# Altium schematic symbol library Elenze.SchLib: 40 symbols
Pins are listed as number, name and electrical type; pins without a type are passive.

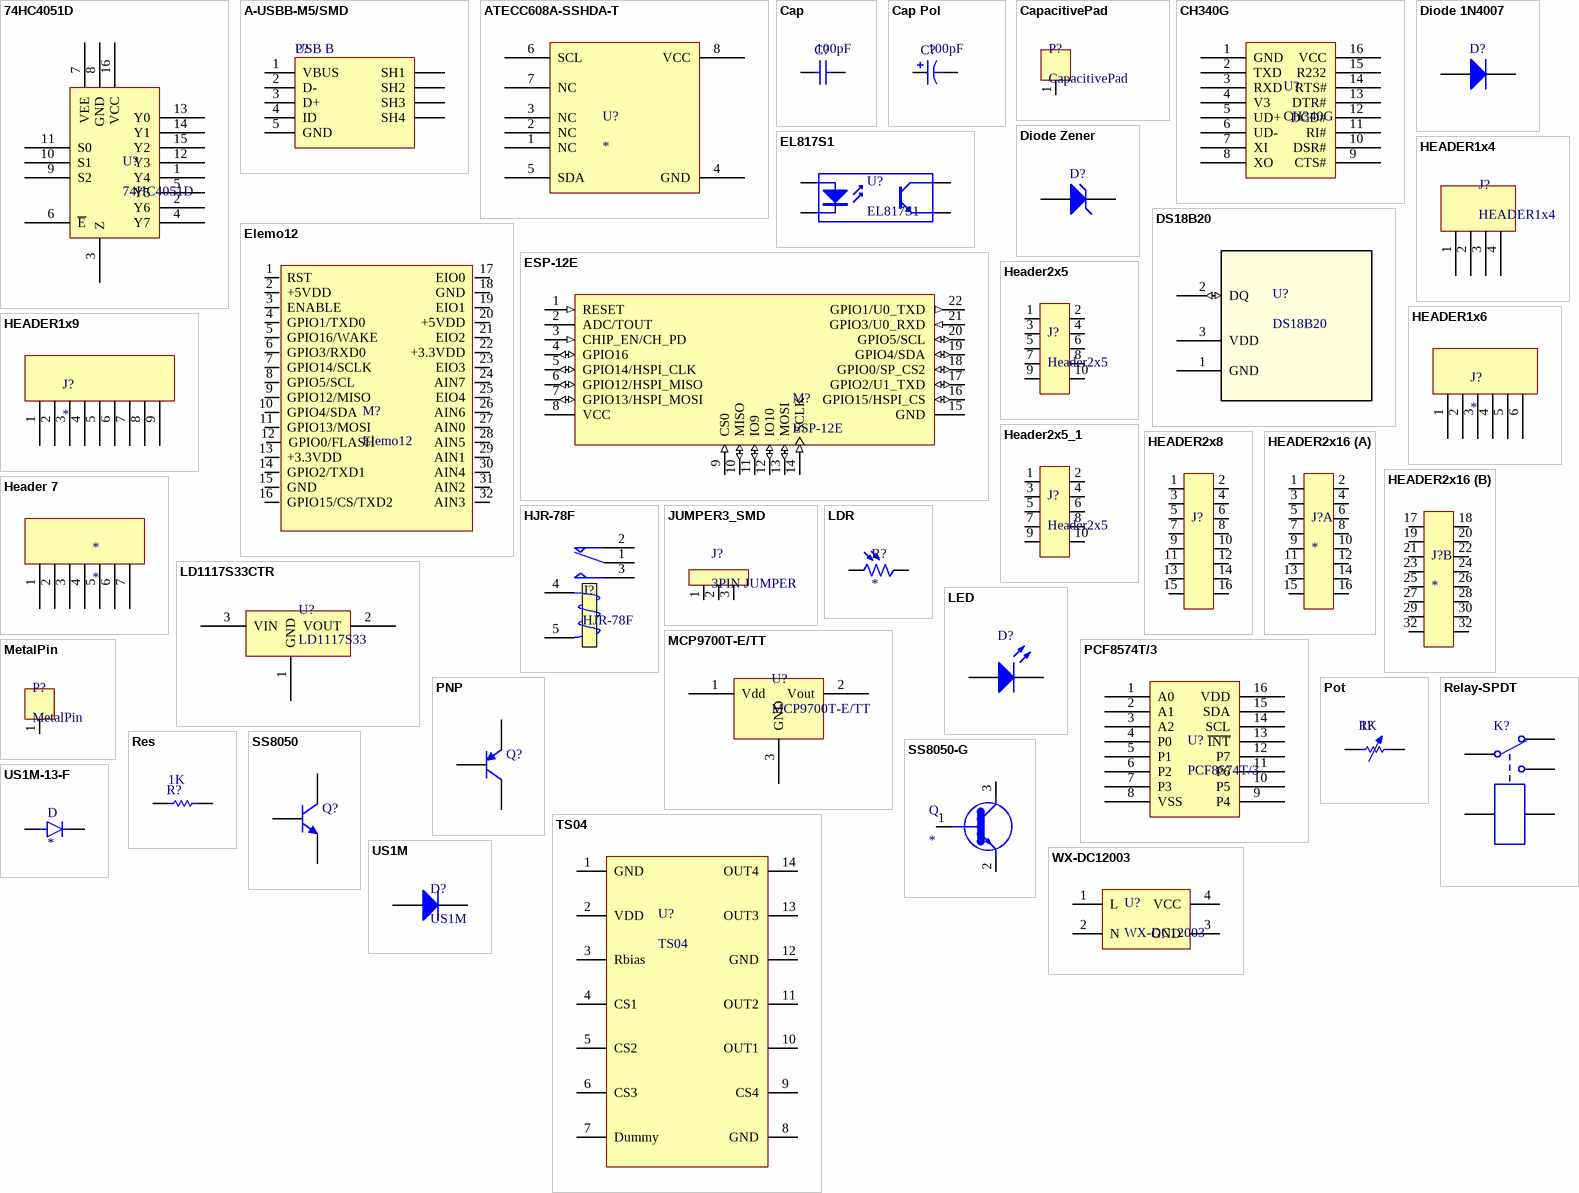
[diagram p0: symbols 74HC4051D to WX-DC12003]

## 74HC4051D
designator U?
CMOS ANALOG/DIGITAL MUX/DEMUX
footprint SO_16N (SOIC, 16-Leads, Body 9.9x3.9mm (max), Pitch 1.27mm, IPC Medium Density)
pins: 1 Y4, 2 Y6, 3 Z, 4 Y7, 5 Y5, 6 ~{E}, 7 VEE, 8 GND, 9 S2, 10 S1, 11 S0, 12 Y3, 13 Y0, 14 Y1, 15 Y2, 16 VCC

## A-USBB-M5/SMD
designator P?, comment USB B
USB 1.1 connector - style B-Mini, SMD, Female, 5 contacts; Manufacturer: Assmann WSW components; Manufacture Part #: A-USBB-M5/SMD; Rating: 1A; Link to Datasheet: *; Link to Picture: *; Operating Temp: -55°C ~ 85°C; Storage Temp: -55°C ~ 85°C; ComponentLink1URL: *; ComponentLink1Description: *; Value: USB B
footprint USB_MINI_SMD
pins: 1 VBUS (power), 2 D-, 3 D+, 4 ID, 5 GND, SH1, SH2, SH3, SH4

## ATECC608A-SSHDA-T
designator U?
IC AUTHENTICATION CHIP 8SOIC; MF: Microchip; MP: ATECC608A-SSHDA-T; Check_prices: https://www.snapeda.com/parts/ATECC608A-SSHDA-T/Microchip/view-part/2888503/?ref=eda; Availability: Warning; Price: None; Package: SO-8 Microchip; Value: *; Purchase-URL: https://pricing.snapeda.com/search/part/ATECC608A-SSHDA-T/?ref=eda; SnapEDA_Link: https://www.snapeda.com/parts/ATECC608A-SSHDA-T/Microchip/view-part/2888503/?ref=snap
footprint SO_8N (SOIC, 8-Leads, Body 5.1x3.9mm (max), Pitch 1.27mm, IPC Medium Density)
pins: 1 NC, 2 NC, 3 NC, 4 GND, 5 SDA, 6 SCL, 7 NC, 8 VCC

## Cap
designator C?  value 100pF
Capacitor; Published: 8-Jun-2000; LatestRevisionDate: 17-Jul-2002; LatestRevisionNote: Re-released for DXP Platform.; PackageReference: RAD-0.3; Publisher: Altium Limited; PackageDescription: Radial Cap, Thru-Hole; 2 Leads; 0.3 in Pin Spacing
footprint RAD-0.3 (Radial Cap, Thru-Hole; 2 Leads; 0.3 in Pin Spacing)
simulation model CAP (Capacitor)
signal-integrity model Cap
footprint 0201 (Chip Resistor, 2-Leads, Body 0.6x0.3mm, IPC Medium Density)
footprint 0402 (Chip Resistor, 2-Leads, Body 1.0x0.5mm, IPC Medium Density)
footprint 0603 (Chip Resistor, 2-Leads, Body 1.6x0.8mm, IPC Medium Density)
footprint 0805 (Chip Resistor, 2-Leads, Body 2.0x1.2mm, IPC Medium Density)
footprint 1206 (Chip Capacitor, 2-Leads, Body 3.2x1.6mm, IPC Medium Density)
pins: 1, 2

## Cap Pol
designator C?  value 100pF
Polarized Capacitor (Axial); Published: 8-Jun-2000; LatestRevisionDate: 17-Jul-2002; LatestRevisionNote: Re-released for DXP Platform.; PackageReference: POLAR0.8; Publisher: Altium Limited; PackageDescription: Polarized Capacitor; 2 Leads
footprint POLAR0.8 (Polarized Capacitor; 2 Leads)
simulation model CAP (Capacitor)
signal-integrity model Cap Pol
footprint CAPAE170X170 (Molded Capacitor, 2-Leads, Body 4.3x4.3mm, IPC Medium Density)
footprint CAPAE325X325
footprint CAPAE330X330 (Molded Capacitor, 2-Leads, Body 8.3x8.3mm, IPC Medium Density)
footprint 0603P (Chip Resistor, 2-Leads, Body 1.6x0.8mm, IPC Medium Density)
footprint 0805P (hip Capacitor, 2-Leads, Body 2.1x1.4mm, IPC Medium Density)
footprint 1206P (Chip Capacitor, 2-Leads, Body 3.2x1.6mm, IPC Medium Density)
footprint RB100-270
pins: 1, 2
1 alternate drawing of the same symbol

## CapacitivePad
designator P?
footprint TouchPad10x10
pins: 1

## CH340G
designator U?
USB to Serial Converter
footprint SO_16N (SOIC, 16-Leads, Body 9.9x3.9mm (max), Pitch 1.27mm, IPC Medium Density)
pins: 1 GND, 2 TXD, 3 RXD, 4 V3, 5 UD+, 6 UD-, 7 XI, 8 XO, 9 CTS#, 10 DSR#, 11 RI#, 12 DCD#, 13 DTR#, 14 RTS#, 15 R232, 16 VCC

## Diode 1N4007
designator D?
1 Amp General Purpose Rectifier; Published: 8-Jun-2000; LatestRevisionDate: 17-Jul-2002; LatestRevisionNote: Re-released for DXP Platform.; DatasheetVersion: 1998; PackageVersion: Aug-1999; PackageReference: DO-41; Publisher: Altium Limited; PackageDescription: Diode, Axial; Body 5.2 x 2.7 mm (LxDia. max), Lead Dia. 0.86 mm (max); Code_JEDEC: DO-204-AL; ComponentLink1Description: Manufacturer Link; ComponentLink1URL: http://www.fairchildsemi.com/; ComponentLink2Description: Datasheet; ComponentLink2URL: http://www.fairchildsemi.com/ds/1N%2F1N4001.pdf
footprint DO-41 (Diode, Axial; Body 5.2 x 2.7 mm (LxDia. max), Lead Dia. 0.86 mm (max))
simulation model 1N4007 (DIODE)
signal-integrity model 1N4007
pins: 1 A, 2 K

## Diode Zener
designator D?
Zener Diode; Published: 8-Jun-2000; LatestRevisionDate: 17-Jul-2002; LatestRevisionNote: Re-released for DXP Platform.; PackageReference: DIODE-0.7; Publisher: Altium Limited; PackageDescription: Diode, Thru-Hole; 2 Leads; 0.7 in Pin Spacing
footprint DIODE-0.7 (Diode, Thru-Hole; 2 Leads; 0.7 in Pin Spacing)
simulation model ZENER (Diode)
signal-integrity model D Zener
footprint DO1206 (MELF Diode, 2-Leads, Body 3.5x1.7mm, IPC Medium Density)
pins: 1 A, 2 K

## DS18B20
designator U?
SENSOR DIGITAL -55C-125C; Manufacturer: Maxim Integrated; Part Number: DS18B20; Package: TO-92-3
footprint TO-92-3
pins: 1 GND (power), 2 DQ (io), 3 VDD (power)

## EL817S1
designator U?
4 PIN DIP Phototransistor Photocoupler; Manufacturer: Everlight; Part Number: EL817S1; Package: Surface Mount Lead
pins: 1 A (power) "Anode", 2 K (power) "Cathode", 3 E (power) "Emitter", 4 C (power) "Collector"

## Elemo12
designator M?
Elenze Module ESP-12 Secured with Expanded Analog/Digital IO
footprint Elemo12
footprint Elemo12_No_screw
pins: 1 RST, 2 +5VDD, 3 ENABLE, 4 GPIO1/TXD0, 5 GPIO16/WAKE, 6 GPIO3/RXD0, 7 GPIO14/SCLK, 8 GPIO5/SCL, 9 GPIO12/MISO, 10 GPIO4/SDA, 11 GPIO13/MOSI, 12 GPIO0/FLASH, 13 +3.3VDD, 14 GPIO2/TXD1, 15 GND, 16 GPIO15/CS/TXD2, 17 EIO0, 18 GND, 19 EIO1, 20 +5VDD, 21 EIO2, 22 +3.3VDD, 23 EIO3, 24 AIN7, 25 EIO4, 26 AIN6, 27 AIN0, 28 AIN5, 29 AIN1, 30 AIN4, 31 AIN2, 32 AIN3

## ESP-12E
designator M?
ESP-12F WiFi module - developed by Ai-thinker Team
footprint ESP8266-12E
pins: 1 RESET (in), 2 ADC/TOUT, 3 CHIP_EN/CH_PD (in), 4 GPIO16 (io), 5 GPIO14/HSPI_CLK (io), 6 GPIO12/HSPI_MISO (io), 7 GPIO13/HSPI_MOSI (io), 8 VCC (power), 9 CS0 (in), 10 MISO (io), 11 IO9 (io), 12 IO10 (io), 13 MOSI (io), 14 SCLK (in), 15 GND (power), 16 GPIO15/HSPI_CS (io), 17 GPIO2/U1_TXD (io), 18 GPIO0/SP_CS2 (io), 19 GPIO4/SDA (io), 20 GPIO5/SCL (io), 21 GPIO3/U0_RXD (in), 22 GPIO1/U0_TXD (out)

## HEADER1x4
designator J?
pins: 1, 2, 3, 4

## HEADER1x6
designator J?
HEADER 1x6
footprint HDR_1X6_2.54_SMT
pins: 1, 2, 3, 4, 5, 6

## HEADER1x9
designator J?
HEADER 1x9
pins: 1, 2, 3, 4, 5, 6, 7, 8, 9

## Header2x5
designator J?
footprint Header2x5
pins: 1, 2, 3, 4, 5, 6, 7, 8, 9, 10

## Header2x5_1
designator J?, comment Header2x5
footprint Header2x5
pins: 1, 2, 3, 4, 5, 6, 7, 8, 9, 10

## HEADER2x8
designator J?, comment 2x8 PIN HEADER  (value not drawn)
footprint HDR_2*8_1.27_SMT
pins: 1, 2, 3, 4, 5, 6, 7, 8, 9, 10, 11, 12, 13, 14, 15, 16

## HEADER2x16
designator J?
part A pins: 1, 2, 3, 4, 5, 6, 7, 8, 9, 10, 11, 12, 13, 14, 15, 16
part B pins: 17 1, 18 2, 19 3, 20 4, 21 5, 22 6, 23 7, 24 8, 25 9, 26 10, 27 11, 28 12, 29 13, 30 14, 32 15, 32 16

## Header 7
designator *
footprint HDR_1x7 (Connector; Header; 7 Position ,2.54mm Pitch)
pins: 1, 2, 3, 4, 5, 6, 7

## HJR-78F
designator J?
20A switching capability Small size auto Relay; Part Number: TRKM S-Z; Manufacturer: Tianbo; Package: Through Hole
footprint RELAY
pins: 1 COM, 2 NC, 3 NO, 4 T1, 5 T2

## JUMPER3_SMD
designator J?, comment 3PIN JUMPER
footprint SMDJUMPER_3
pins: 1, 2, 3

## LD1117S33CTR
designator U?, comment LD1117S33
IC REG LINEAR 3.3V 800MA; Part Number: LD1117S33CTR; Manufacturer: STMicroelectronics; Package: SOT223
footprint SOT223
pins: 1 GND, 2 VOUT, 3 VIN

## LDR
designator R?
CdS Cells 520nm 16 ~ 33kOhms @ 10 lux; MF: Advanced Photonix; MP: PDV-P8103; Value: *; Price: None; Package: Radial Advanced Photonix; SnapEDA_Link: https://www.snapeda.com/parts/PDV-P8103/Advanced%20Photonix/view-part/558244/?ref=snap; Availability: Unavailable
footprint LDR
pins: 1, 2

## LED
designator D?
Typical INFRARED GaAs LED; Published: 8-Jun-2000; LatestRevisionDate: 08-Jul-2005; LatestRevisionNote: Mech Layer 1 removed.; PackageReference: LED-0; Publisher: Altium Limited; PackageDescription: LED; 2 Leads
footprint LED-0 (LED; 2 Leads)
simulation model LED0 (Diode)
footprint DO603 (Chip Resistor, 2-Leads, Body 1.6x0.8mm, IPC Medium Density)
footprint DO805 (Molded Diode, 2-Leads, Body 2.0x1.2mm, IPC Medium Density)
footprint DO1206 (MELF Diode, 2-Leads, Body 3.5x1.7mm, IPC Medium Density)
footprint LED603_Hole
pins: 1 A, 2 K

## MCP9700T-E/TT
designator U?
Low-Power Linear Active Thermistor
footprint SOT-23
pins: 1 Vdd, 2 Vout, 3 GND

## MetalPin
designator P?
footprint PCBComponent_1
footprint MetalPin
pins: 1

## PCF8574T/3
designator U?
I2C IO Expander
footprint SO_16W (SOIC, 16-Leads, Body 10.3x7.5mm (max), Pitch 1.27mm, IPC Medium Density)
pins: 1 A0, 2 A1, 3 A2, 4 P0, 5 P1, 6 P2, 7 P3, 8 VSS, 9 P4, 10 P5, 11 P6, 12 P7, 13 ~{INT}, 14 SCL, 15 SDA, 16 VDD

## PNP
designator Q?
PNP General Purpose Amplifier; Published: 8-Jun-2000; LatestRevisionDate: 15-Jan-2003; LatestRevisionNote: PCB Footprint 'BCY-W3/D4.7' replaced; DatasheetVersion: 1997; PackageVersion: Sep-1998; PackageReference: TO-92A; Publisher: Altium Limited; PackageDescription: TO, Flat Index; 3 In-Line, Axial Leads; Body Dia. 4.5mm; Leads 0.51 x 0.48 mm (max); ComponentLink1Description: Manufacturer Link; ComponentLink1URL: http://www.fairchildsemi.com/; ComponentLink2Description: Datasheet; ComponentLink2URL: http://www.fairchildsemi.com/ds/2N%2F2N3906.pdf
footprint TO-92A (TO, Flat Index; 3 In-Line, Axial Leads; Body Dia. 4.5mm; Leads 0.51 x 0.48 mm (max))
simulation model 2N3906 (PNP)
signal-integrity model 2N3906
pins: 1 E, 2 B, 3 C

## Pot
designator R?  value 1K
Variable Resistor; Set Position: 0.5; Published: 8-Jun-2000; LatestRevisionDate: 17-Jul-2002; LatestRevisionNote: Re-released for DXP Platform.; PackageReference: AXIAL-0.7; Publisher: Altium Limited; PackageDescription: Axial Device, Thru-Hole; 2 Leads; 0.7 in Pin Spacing
footprint AXIAL-0.7 (Axial Device, Thru-Hole; 2 Leads; 0.7 in Pin Spacing)
simulation model VRES (Variable Resistor)
signal-integrity model Res Adj
pins: 1, 2

## Relay-SPDT
designator K?
Single-Pole Dual-Throw Relay; Published: 24-Mar-1999; LatestRevisionDate: 17-Jul-2002; LatestRevisionNote: Re-released for DXP Platform.; PackageReference: MODULE5B; Publisher: Altium Limited
footprint RELAY
simulation model SPDTRELAY (Spice Subcircuit)
pins: 1, 2, 3, 4, 5

## Res
designator R?  value 1K
Resistor; Published: 8-Jun-2000; LatestRevisionDate: 17-Jul-2002; LatestRevisionNote: Re-released for DXP Platform.; PackageReference: AXIAL-0.3; Publisher: Altium Limited; PackageDescription: Axial Device, Thru-Hole; 2 Leads; 0.3 in Pin Spacing
footprint AXIAL-0.3 (Axial Device, Thru-Hole; 2 Leads; 0.3 in Pin Spacing)
simulation model RESISTOR (Resistor)
signal-integrity model Res
footprint 0201 (Chip Resistor, 2-Leads, Body 0.6x0.3mm, IPC Medium Density)
footprint 0402 (Chip Resistor, 2-Leads, Body 1.0x0.5mm, IPC Medium Density)
footprint 0603 (Chip Resistor, 2-Leads, Body 1.6x0.8mm, IPC Medium Density)
footprint 0805 (Chip Resistor, 2-Leads, Body 2.0x1.2mm, IPC Medium Density)
footprint 1206 (Chip Capacitor, 2-Leads, Body 3.2x1.6mm, IPC Medium Density)
pins: 1, 2

## SS8050
designator Q?
NPN General Purpose Amplifier; Published: 8-Jun-2000; LatestRevisionDate: 15-Jan-2003; LatestRevisionNote: PCB Footprint 'BCY-W3/D4.7' replaced; DatasheetVersion: 1997; PackageVersion: Sep-1998; PackageReference: TO-92A; Publisher: Altium Limited; PackageDescription: TO, Flat Index; 3 In-Line, Axial Leads; Body Dia. 4.5mm; Leads 0.51 x 0.48 mm (max); ComponentLink1Description: Manufacturer Link; ComponentLink1URL: http://www.fairchildsemi.com/; ComponentLink2Description: Datasheet; ComponentLink2URL: http://www.fairchildsemi.com/ds/2N%2F2N3904.pdf
footprint TO-92A (TO, Flat Index; 3 In-Line, Axial Leads; Body Dia. 4.5mm; Leads 0.51 x 0.48 mm (max))
simulation model 2N3904 (NPN)
signal-integrity model 2N3904
footprint SOT-23
pins: 1 B, 2 E, 3 C

## SS8050-G
designator Q
Bipolar _BJT_ Transistor NPN 25V 1.5A 100MHz 300mW Surface Mount SOT-23; MF: Comchip Technology; MP: SS8050-G; Price: None; SnapEDA_Link: https://www.snapeda.com/parts/SS8050-G/Comchip%20Technology/view-part/809142/?ref=snap; Availability: Unavailable; Value: *; Package: TO-236 Comchip
footprint SOT95P240X115-3N
pins: 1 B (io), 2 E (io), 3 C (io)

## TS04
designator U?
4-Channel Self Calibration Capacitive Touch Sensor; Manufacturer: touchSEMI; Part Number: TS04; Package: 14SOP
pins: 1 GND, 2 VDD, 3 Rbias, 4 CS1, 5 CS2, 6 CS3, 7 Dummy, 8 GND, 9 CS4, 10 OUT1, 11 OUT2, 12 GND, 13 OUT3, 14 OUT4

## US1M
designator D?
DIODE GEN PURP 1KV 1A DO214AC; Part Number: US1M-M3/5AT; Manufacturer: Vishay General Semiconductor - Diodes Division; Package: SMA
footprint DIO_ES1J
footprint DO214AC (Molded Diode, 2-Leads, Body 4.2x2.7mm, IPC Medium Density)
pins: A, K

## US1M-13-F
designator D
Diode Standard 1000V 1A Surface Mount SMA; MF: Diodes Inc.; MP: US1M-13-F; Package: DO-214 Diodes Inc.; Value: *; Price: None; Availability: Unavailable; SnapEDA_Link: https://www.snapeda.com/parts/US1M-13-F/Diodes%20Inc./view-part/270779/?ref=snap
footprint DIO_ES1J
pins: A, K

## WX-DC12003
designator U?
85~265V AC to 5V 3.5W DC Isolated Power Supply Module; Manufacturer: Aerial telecommunications; Part Number: WX-DC12003; Package: Module
footprint WX-DC12003
footprint WX-DC12003
pins: 1 L, 2 N, 3 GND, 4 VCC

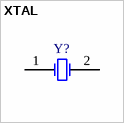
[diagram p1: symbol XTAL]

## XTAL
designator Y?
Crystal Oscillator; Published: 8-Jun-2000; LatestRevisionDate: 17-Jul-2002; LatestRevisionNote: Re-released for DXP Platform.; PackageReference: R38; Publisher: Altium Limited; PackageDescription: Crystal, Thru-Hole; 2 Leads; Body 3.1 x 8.2 mm (Dia.xH)
simulation model XTAL (Spice Subcircuit)
footprint xtal-smd
pins: 1 OSC1, 2 OSC2